# EAGLE library part MICS-12 (library con-lumberg)
CONNECTOR
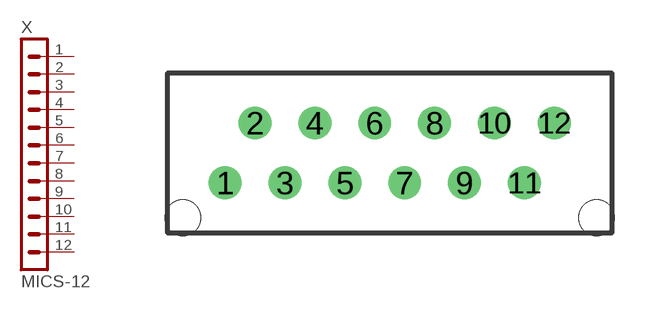
[diagram p2: symbol with the pads of MICS-12; footprint MICS-12]

Designator prefix X

## MICS-12 (OC_FARNELL: 808910; OC_NEWARK: unknown)  [MICS-12]
1  1  pas
2  2  pas
3  3  pas
4  4  pas
5  5  pas
6  6  pas
7  7  pas
8  8  pas
9  9  pas
10  10  pas
11  11  pas
12  12  pas

## Footprint MICS-12 (pad centres in mm)
CONNECTOR
drill 0.85 pad 1.397: 1 -6.985,-1.27; 2 -5.715,1.27; 3 -4.445,-1.27; 4 -3.175,1.27; 5 -1.905,-1.27; 6 -0.635,1.27; 7 0.635,-1.27; 8 1.905,1.27; 9 3.175,-1.27; 10 4.445,1.27; 11 5.715,-1.27; 12 6.985,1.27
hole 1.5 at 8.785,-2.75
hole 1.5 at -8.785,-2.75